# Altium schematic symbol library ResistorArray.SchLib: 1 symbol
Pins are listed as number, name and electrical type; pins without a type are passive.

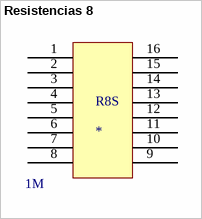
[diagram p0: symbol Resistencias 8]

## Resistencias 8
designator R8S  Resistencia: 1M
Resistor Network, 8 Isolated
footprint MatrixResistance
pins: 1, 2, 3, 4, 5, 6, 7, 8, 9, 10, 11, 12, 13, 14, 15, 16